# EAGLE library part CK_1*6 (library CONNECTER)
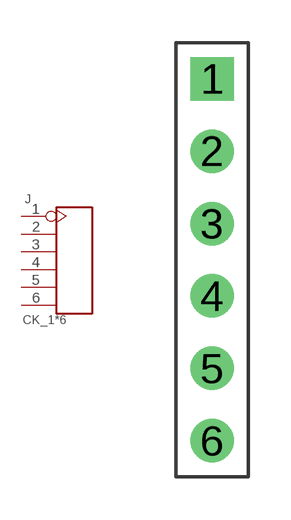
[diagram p0: symbol with the pads of CK_1*6; footprint CK_1*6]

Designator prefix J

## CK_16  [CK_1*6]
1  1
2  2
3  3
4  4
5  5
6  6

## Footprint CK_1*6 (pad centres in mm)
drill 0.813 pad 1.524 square: 1 0,6.35
drill 0.813 pad 1.524 round: 2 0,3.81; 3 0,1.27; 4 0,-1.27; 5 0,-3.81; 6 0,-6.35